# Altium footprint library 呼叫器新库.PcbLib: 24 footprints (part 2 of 2)
Each footprint in its own frame and in the unit in brackets; x right, y up, seen from the top. Pads: shape width x height; smd on the part's side, far side on the other; paste and mask are expansions set on the pad; w line width, h text height; cw(c..) or ccw(c..) is an arc to the next point about the centre after c.
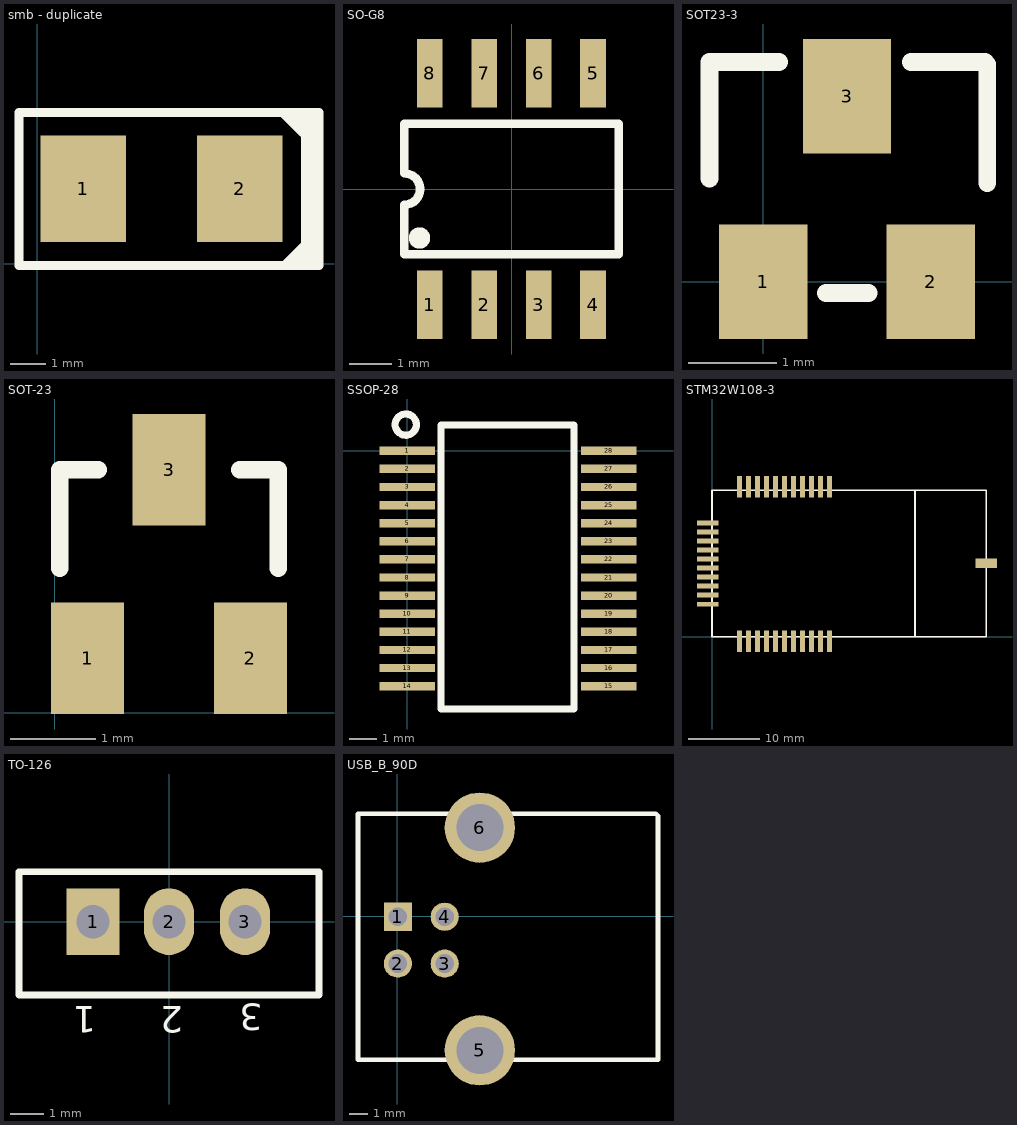
[diagram p1: the footprints below, top view; thin cyan lines are the x and y axes]

## smb - duplicate [mm]
pads (2):
  rect 2.4x3 smd: 1(1.3,2.1) 2(5.7,2.1)
Top Overlay:
  lines w0.254: 6.909,4.242 7.468,3.683 ; 6.985,-0.025 7.544,0.533 ; 7.159,-0.029 7.718,0.53 ; 7.268,4.188 7.827,3.629 ; 7.544,-0.051 7.747,-0.051 ; 7.544,-0.051 7.544,4.242 ; 7.544,-0.051 -0.508,-0.051 -0.508,4.242 7.544,4.242 ; 7.544,4.242 7.747,4.242 ; 7.747,-0.051 7.925,-0.051 7.925,4.242 7.747,4.242 ; 7.747,-0.051 7.747,4.242

## SO-G8 [mm]
height 2.5
pads (8):
  rect 0.6x1.6 smd: 1(-1.916,-2.7) 2(-0.646,-2.7) 3(0.624,-2.7) 4(1.894,-2.7) 5(1.894,2.7) 6(0.624,2.7) 7(-0.646,2.7) 8(-1.916,2.7)
Top Overlay:
  circle w0.25: c-2.157,-1.143 r0.125
  lines w0.2: -2.511,-1.524 2.489,-1.524 2.489,1.524 -2.511,1.524 -2.511,0.365 cw(c-2.511,-0.002) -2.511,-0.369 -2.511,-1.524

## SOT23-3 [mm]
height 1
pads (3):
  rect 1x1.3 smd: 1(0,0) 2(1.9,0) 3(0.95,2.1)
Top Overlay:
  lines w0.203: -0.61,1.168 -0.61,2.489 0.178,2.489 ; 0.711,-0.127 1.194,-0.127 ; 1.676,2.489 2.515,2.489 2.54,2.464 2.54,1.118

## SOT-23 [mm]
height 2
pads (3):
  rect 0.85x1.3 smd: 1(0.381,0.635) 2(2.281,0.635) 3(1.331,2.835)
Top Overlay:
  lines w0.2: 0.056,1.685 0.056,2.835 0.506,2.835 ; 2.156,2.835 2.606,2.835 2.606,1.685

## SSOP-28 [mm]
height 1
pads (28):
  rect 2x0.3 smd: 1(0,0) 2(0,-0.65) 3(0,-1.3) 4(0,-1.95) 5(0,-2.6) 6(0,-3.25) 7(0,-3.9) 8(0,-4.55) 9(0,-5.2) 10(0,-5.85) 11(0,-6.5) 12(0,-7.15) 13(0,-7.8) 14(0,-8.45) 15(7.239,-8.45) 16(7.239,-7.8) 17(7.239,-7.15) 18(7.239,-6.5) 19(7.239,-5.85) 20(7.239,-5.2) 21(7.239,-4.55) 22(7.239,-3.9) 23(7.239,-3.25) 24(7.239,-2.6) 25(7.239,-1.95) 26(7.239,-1.3) 27(7.239,-0.65) 28(7.239,0)
Top Overlay:
  circle w0.254: c-0.051,0.94 r0.381
  lines w0.254: 1.219,-9.271 5.994,-9.271 5.994,0.929 1.219,0.929 1.219,-9.271

## STM32W108-3 [mm]
height 6.86
pads (33):
  rect 0.7x3 smd: 1(16.51,21.074) 2(15.24,21.074) 3(13.97,21.074) 4(12.7,21.074) 5(11.43,21.074) 6(10.16,21.074) 7(8.89,21.074) 8(7.62,21.074) 9(6.35,21.074) 10(5.08,21.074) 11(3.81,21.074) 22(3.81,-0.627) 23(5.08,-0.627) 24(6.35,-0.627) 25(7.62,-0.627) 26(8.89,-0.627) 27(10.16,-0.627) 28(11.43,-0.627) 29(12.7,-0.627) 30(13.97,-0.627) 31(15.24,-0.627) 32(16.51,-0.627)
  rect 3x0.7 smd: 12(-0.627,16.002) 13(-0.627,14.732) 14(-0.627,13.462) 15(-0.627,12.192) 16(-0.627,10.922) 17(-0.627,9.652) 18(-0.627,8.382) 19(-0.627,7.112) 20(-0.627,5.842) 21(-0.627,4.572)
  rect 3x1.3 smd: ""(38.5,10.314)
Top Overlay:
  lines w0.254: 0,0 28.5,0 38.5,0 38.5,20.5 ; 0,0.074 0,20.574 28.5,20.574 28.5,0.074 ; 28.481,20.574 38.481,20.574

## TO-126 [mm]
height 14.5
pads (3):
  rect 1.6x2 hole 1: 1(-2.28,0)
  oval 1.5x2 hole 1: 2(0,0) 3(2.28,0)
Top Overlay:
  lines w0.203: -4.5,-2.2 4.5,-2.2 4.5,1.5 -4.5,1.5 -4.5,-2.2
  text "1" at -2.185,-2.542 h0.8
  text "2" at 0.432,-2.542 h0.8
  text "3" at 2.819,-2.465 h0.8

## USB_B_90D [mil] "180度 横插 方口USB母座"
height 270.08
pads (6):
  rect 60.06x60.06 hole 40: 1(1,-1)
  round 60.06 hole 40: 2(1,-101) 3(101,-101) 4(101,-1)
  round 150 hole 100: 5(176,-286) 6(176,189)
Top Overlay:
  lines w10: -84,-306 556,-306 556,214 551,219 -84,219 -84,-306